# Altium schematic symbol library Maxim.SchLib: 5 symbols
Pins are listed as number, name and electrical type; pins without a type are passive.

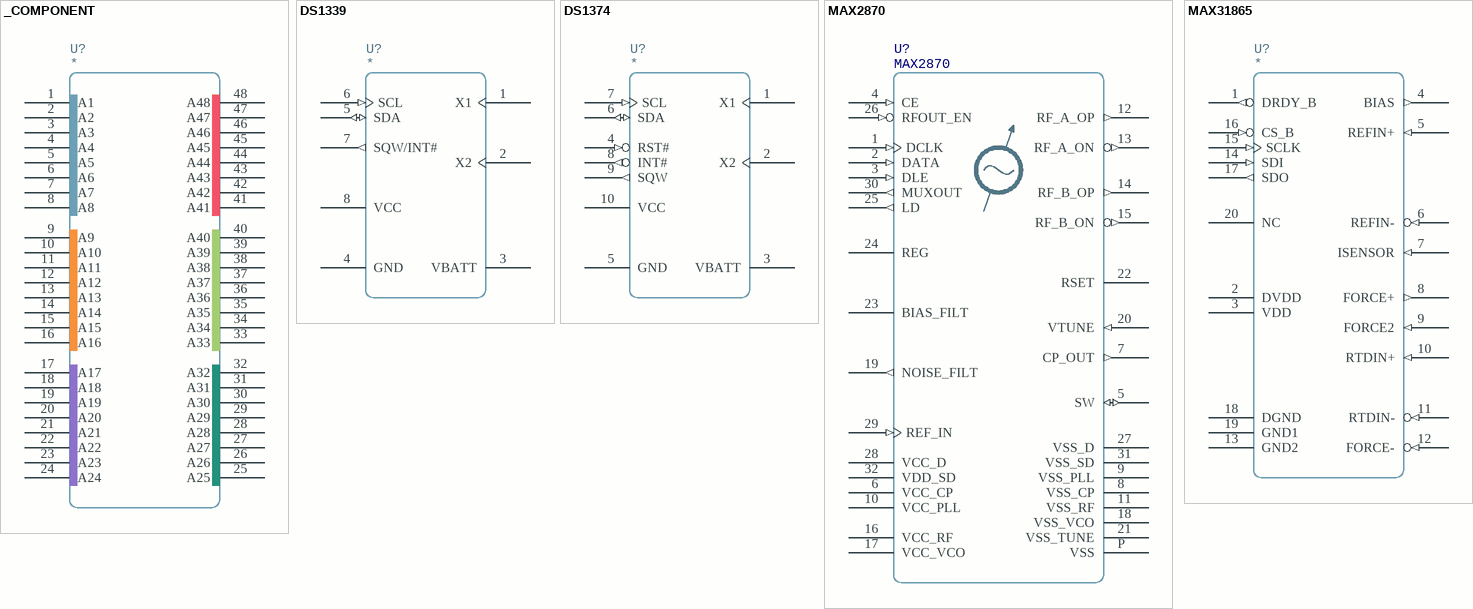
[diagram p0: symbols _COMPONENT to MAX31865]

## _COMPONENT
designator U?
pins: 1 A1, 2 A2, 3 A3, 4 A4, 5 A5, 6 A6, 7 A7, 8 A8, 9 A9, 10 A10, 11 A11, 12 A12, 13 A13, 14 A14, 15 A15, 16 A16, 17 A17, 18 A18, 19 A19, 20 A20, 21 A21, 22 A22, 23 A23, 24 A24, 25 A25, 26 A26, 27 A27, 28 A28, 29 A29, 30 A30, 31 A31, 32 A32, 33 A33, 34 A34, 35 A35, 36 A36, 37 A37, 38 A38, 39 A39, 40 A40, 41 A41, 42 A42, 43 A43, 44 A44, 45 A45, 46 A46, 47 A47, 48 A48

## DS1339
designator U?
pins: 1 X1, 2 X2, 3 VBATT, 4 GND, 5 SDA (io), 6 SCL (in), 7 SQW/INT# (out), 8 VCC

## DS1374
designator U?
pins: 1 X1, 2 X2, 3 VBATT, 4 RST# (in), 5 GND, 6 SDA (io), 7 SCL (in), 8 INT# (out), 9 SQW (out), 10 VCC

## MAX2870
designator U?
Wideband Synthesizer with Integrated VCO; PartNumber: MAX2870ETJ+; Vendor: Maxim Semi; PinCountSMD: 33; PinCountHole: 0; Designer: shyul; PCBMarker: PLL; Value: MAX2870; Version: 1.0; VersionDate: 03-25-2014; SerialNumber: 0; Publisher: Shyu Lee
footprint QFN-5-32
pins: 1 DCLK (in), 2 DATA (in), 3 DLE (in), 4 CE (in), 5 SW (io), 6 VCC_CP, 7 CP_OUT (out), 8 VSS_CP, 9 VSS_PLL, 10 VCC_PLL, 11 VSS_RF, 12 RF_A_OP (out), 13 RF_A_ON (out), 14 RF_B_OP (out), 15 RF_B_ON (out), 16 VCC_RF, 17 VCC_VCO, 18 VSS_VCO, 19 NOISE_FILT (out), 20 VTUNE (in), 21 VSS_TUNE, 22 RSET, 23 BIAS_FILT, 24 REG, 25 LD (out), 26 RFOUT_EN (in), 27 VSS_D, 28 VCC_D, 29 REF_IN (in), 30 MUXOUT (out), 31 VSS_SD, 32 VDD_SD, P VSS
2 alternate drawings of the same symbol

## MAX31865
designator U?
pins: 1 DRDY_B (out), 2 DVDD, 3 VDD, 4 BIAS (out), 5 REFIN+ (in), 6 REFIN- (in), 7 ISENSOR (in), 8 FORCE+ (out), 9 FORCE2 (in), 10 RTDIN+ (in), 11 RTDIN- (in), 12 FORCE- (in), 13 GND2, 14 SDI (in), 15 SCLK (in), 16 CS_B (in), 17 SDO (out), 18 DGND, 19 GND1, 20 NC